# Altium footprint library Kame_PDB.PcbLib: 15 footprints
Each footprint in its own frame and in the unit in brackets; x right, y up, seen from the top. Pads: shape width x height; smd on the part's side, far side on the other; paste and mask are expansions set on the pad; w line width, h text height; cw(c..) or ccw(c..) is an arc to the next point about the centre after c.
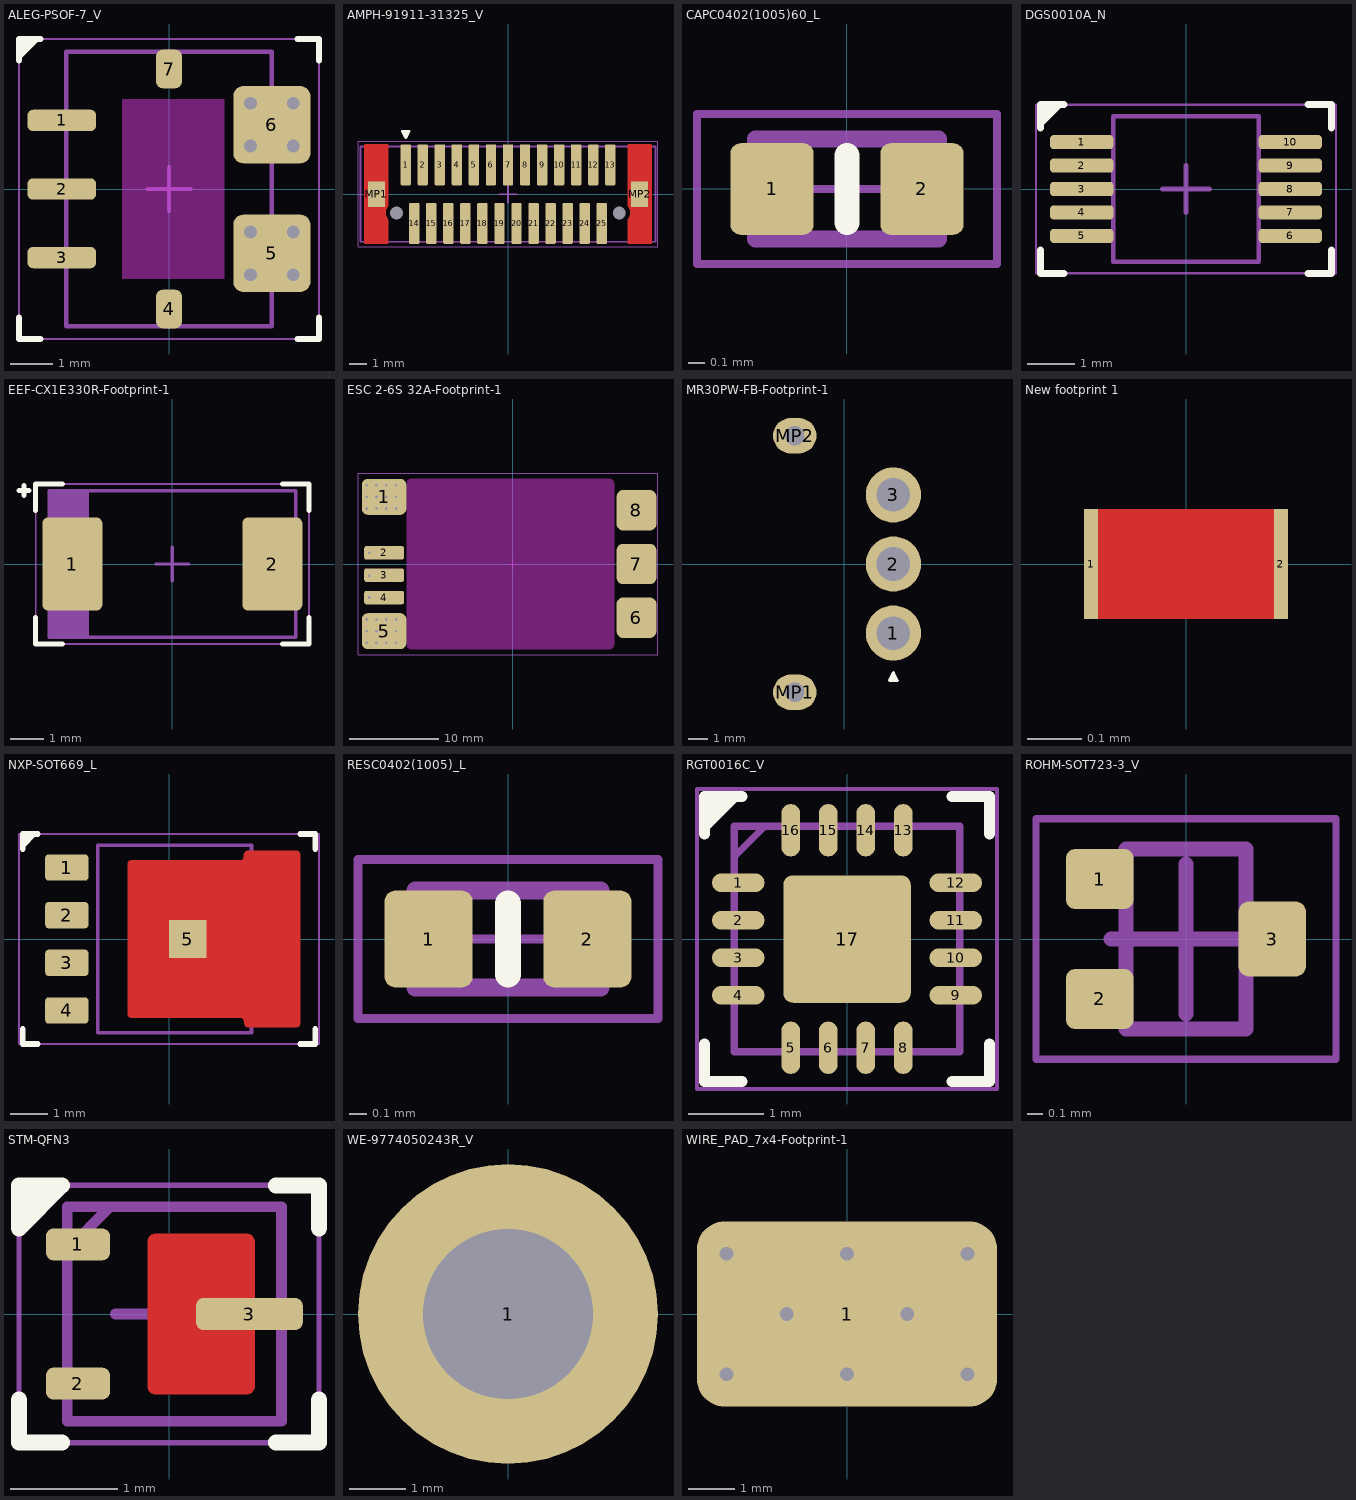
[diagram p0: the footprints below, top view; thin cyan lines are the x and y axes]

## ALEG-PSOF-7_V [mm]
pads (7):
  rrect50% 1.6x0.5 smd: 1(-2.5,1.6) 2(-2.5,0) 3(-2.5,-1.6)
  rrect50% 0.6x0.9 smd: 4(0,-2.8) 7(0,2.8)
  rrect25% 1.8x1.8 smd: 5(2.4,-1.5) 6(2.4,1.5)
via 1.9,2 diameter 0.6 hole 0.3
via 2.9,2 diameter 0.6 hole 0.3
via 1.9,1 diameter 0.6 hole 0.3
via 2.9,1 diameter 0.6 hole 0.3
via 1.9,-1 diameter 0.6 hole 0.3
via 2.9,-1 diameter 0.6 hole 0.3
via 1.9,-2 diameter 0.6 hole 0.3
via 2.9,-2 diameter 0.6 hole 0.3
Top Overlay:
  region: -3.5,3.5 -3.5,3.1 -3.1,3.5
  lines w0.15: -3.5,-3 -3.5,-3.5 -3,-3.5 ; -3.5,3 -3.5,3.5 -3,3.5 ; -3.1,3.5 -3.5,3.1 ; 3,-3.5 3.5,-3.5 3.5,-3 ; 3,3.5 3.5,3.5 3.5,3 ; -3.5,3.1 -3.5,3.1
Keep-Out Layer:
  rectangle: -1.1,-2.1 1.3,2.1
Top Courtyard:
  lines w0.05: -3.5,-3.5 3.5,-3.5 3.5,3.5 -3.5,3.5 -3.5,-3.5
  lines w0.1: -0.5,0 0.5,0 ; 0,-0.5 0,0.5
Top Assembly:
  lines w0.1: -2.4,-3.2 2.4,-3.2 2.4,3.2 -2.4,3.2 -2.4,-3.2
Top Designator:
  text ".Designator" at -1.27,-0.127 h0.6
3D body "7-Pin PSOF Package.STEP": height 1.49, standoff 0.01, extent -3.2,-3.2 3.2,3.2

## AMPH-91911-31325_V [mm]
pads (29):
  rrect25% 0.61x2.41 smd paste-0.61: 1(-6,1.72) 2(-5,1.72) 3(-4,1.72) 4(-3,1.72) 5(-2,1.72) 6(-1,1.72) 7(0,1.72) 8(1,1.72) 9(2,1.72) 10(3,1.72) 11(4,1.72) 12(5,1.72) 13(6,1.72) 14(-5.5,-1.72) 15(-4.5,-1.72) 16(-3.5,-1.72) 17(-2.5,-1.72) 18(-1.5,-1.72) 19(-0.5,-1.72) 20(0.5,-1.72) 21(1.5,-1.72) 22(2.5,-1.72) 23(3.5,-1.72) 24(4.5,-1.72) 25(5.5,-1.72)
  round 0 hole 0.76 unplated: H1(-6.528,-1.1) H2(6.528,-1.1)
  rect 1x1.5 smd paste-0.61: MP1(-7.72,0) MP2(7.72,0)
Top Layer:
  region: -8.42,-2.855 -8.42,2.855 -8.42,2.869 -8.409,2.895 -8.39,2.914 -8.364,2.925 -8.35,2.925 -7.1,2.925 -7.084,2.925 -7.055,2.913 -7.032,2.89 -7.02,2.861 -7.02,2.845 -7.02,-0.689 -7.084,-0.78 -7.159,-0.989 -7.159,-1.211 -7.083,-1.419 -7.019,-1.511 -7.02,-2.845 -7.02,-2.861 -7.032,-2.89 -7.055,-2.913 -7.084,-2.925 -7.1,-2.925 -8.35,-2.925 -8.364,-2.925 -8.39,-2.914 -8.409,-2.895 -8.42,-2.869
  region: 8.42,-2.855 8.42,2.855 8.42,2.869 8.409,2.895 8.39,2.914 8.364,2.925 8.35,2.925 7.1,2.925 7.084,2.925 7.055,2.913 7.032,2.89 7.02,2.861 7.02,2.845 7.02,-0.689 7.084,-0.78 7.159,-0.989 7.159,-1.211 7.083,-1.419 7.019,-1.511 7.02,-2.845 7.02,-2.861 7.032,-2.89 7.055,-2.913 7.084,-2.925 7.1,-2.925 8.35,-2.925 8.364,-2.925 8.39,-2.914 8.409,-2.895 8.42,-2.869
Top Overlay:
  region: -5.8,3.7 -6.2,3.7 -6,3.3
  lines w0.15: -6.2,3.7 -5.8,3.7 -6,3.3 -6.2,3.7
Top Paste:
  rectangle: -6.255,0.615 -5.745,2.925
  rectangle: -5.255,0.615 -4.745,2.925
  rectangle: -4.255,0.615 -3.745,2.925
  rectangle: -3.255,0.615 -2.745,2.925
  rectangle: -2.255,0.615 -1.745,2.925
  rectangle: -1.255,0.615 -0.745,2.925
  rectangle: -0.255,0.615 0.255,2.925
  rectangle: 0.745,0.615 1.255,2.925
  rectangle: 1.745,0.615 2.255,2.925
  rectangle: 2.745,0.615 3.255,2.925
  rectangle: 3.745,0.615 4.255,2.925
  rectangle: 4.745,0.615 5.255,2.925
  rectangle: 5.745,0.615 6.255,2.925
  region: -5.245,-0.615 -5.755,-0.615 -5.755,-2.925 -5.245,-2.925
  region: -4.245,-0.615 -4.755,-0.615 -4.755,-2.925 -4.245,-2.925
  region: -3.245,-0.615 -3.755,-0.615 -3.755,-2.925 -3.245,-2.925
  region: -2.245,-0.615 -2.755,-0.615 -2.755,-2.925 -2.245,-2.925
  region: -1.245,-0.615 -1.755,-0.615 -1.755,-2.925 -1.245,-2.925
  region: -0.245,-0.615 -0.755,-0.615 -0.755,-2.925 -0.245,-2.925
  region: 0.755,-0.615 0.245,-0.615 0.245,-2.925 0.755,-2.925
  region: 1.755,-0.615 1.245,-0.615 1.245,-2.925 1.755,-2.925
  region: 2.755,-0.615 2.245,-0.615 2.245,-2.925 2.755,-2.925
  region: 3.755,-0.615 3.245,-0.615 3.245,-2.925 3.755,-2.925
  region: 4.755,-0.615 4.245,-0.615 4.245,-2.925 4.755,-2.925
  region: 5.755,-0.615 5.245,-0.615 5.245,-2.925 5.755,-2.925
  region: -8.42,-2.925 -7.53,-2.925 -7.53,2.925 -8.42,2.925
  region: 8.42,-2.925 7.53,-2.925 7.53,2.925 8.42,2.925
Top Courtyard:
  lines w0.05: -8.8,-3.1 -8.8,3.1 8.8,3.1 8.8,-3.1 -8.8,-3.1
  lines w0.1: -0.5,0 0.5,0 ; 0,-0.5 0,0.5
Top Assembly:
  lines w0.1: -8.65,-2.795 8.65,-2.795 8.65,2.795 -8.65,2.795 -8.65,-2.795
Top Designator:
  text ".Designator" at -1.27,-0.127 h0.6
3D body: height 5, standoff 0, extent -8.65,-2.795 8.65,2.795

## CAPC0402(1005)60_L [mm]
pads (2):
  rrect25% 0.5x0.55 smd: 1(-0.45,0) 2(0.45,0)
Top Overlay:
  lines w0.15: 0,-0.2 0,0.2
Top Courtyard:
  lines w0.05: -0.275,0 0.275,0 ; 0,-0.275 0,0.275 ; -0.9,-0.45 0.9,-0.45 0.9,0.45 -0.9,0.45 -0.9,-0.45
Top Assembly:
  lines w0.1: -0.55,-0.3 -0.55,0.3 0.55,0.3 0.55,-0.3 -0.55,-0.3
Top Designator:
  text ".Designator" at -1.27,-0.127 h0.6
3D body "CAPC1005X60N EIA 0402.STEP": height 0.6, standoff 0, extent -0.5,-0.25 0.5,0.25

## DGS0010A_N [mm]
pads (10):
  rrect50% 1.35x0.3 smd: 1(-2.225,1) 2(-2.225,0.5) 3(-2.225,0) 4(-2.225,-0.5) 5(-2.225,-1) 6(2.225,-1) 7(2.225,-0.5) 8(2.225,0) 9(2.225,0.5) 10(2.225,1)
Top Overlay:
  region: -3.1,1.8 -3.1,1.4 -2.7,1.8
  lines w0.15: -3.1,-1.3 -3.1,-1.8 -2.6,-1.8 ; -3.1,1.3 -3.1,1.8 -2.6,1.8 ; -2.7,1.8 -3.1,1.4 ; 2.6,-1.8 3.1,-1.8 3.1,-1.3 ; 2.6,1.8 3.1,1.8 3.1,1.3 ; -3.1,1.4 -3.1,1.4
Top Courtyard:
  lines w0.05: -3.2,-1.8 3.2,-1.8 3.2,1.8 -3.2,1.8 -3.2,-1.8
  lines w0.1: -0.5,0 0.5,0 ; 0,-0.5 0,0.5
Top Assembly:
  lines w0.1: -1.55,-1.55 1.55,-1.55 1.55,1.55 -1.55,1.55 -1.55,-1.55
Top Designator:
  text ".Designator" at -1.397,-0.254 h0.6
3D body "DGS0010AakaMUB10A.stp": height 0.94, standoff -0.02, extent -2.451,-1.498 2.451,1.499

## EEF-CX1E330R-Footprint-1 [mm]
pads (2):
  rrect20% 1.8x2.8 smd: 1(-3,0) 2(3,0)
Top Overlay:
  lines w0.15: -4.6,2.2 -4.3,2.2 ; -4.45,2.05 -4.45,2.35 ; -4.1,-1.6 -4.1,-2.4 -3.3,-2.4 ; -4.1,1.6 -4.1,2.4 -3.3,2.4 ; 3.3,-2.4 4.1,-2.4 4.1,-1.6 ; 3.3,2.4 4.1,2.4 4.1,1.6
Top Courtyard:
  lines w0.05: -4.1,-2.4 -4.1,2.4 4.1,2.4 4.1,-2.4 -4.1,-2.4
  lines w0.1: -0.5,0 0.5,0 ; 0,-0.5 0,0.5
Top Assembly:
  rectangle: -3.7,-2.2 -2.5,2.2
  lines w0.1: -3.7,-2.2 -3.7,2.2 3.7,2.2 3.7,-2.2 -3.7,-2.2
Top Designator:
  text ".Designator" at -1.27,-0.127 h0.6
3D body "SP-CAP.STEP": height 1.85, standoff 0, extent -3.7,-2.15 3.7,2.15

## ESC 2-6S 32A-Footprint-1 [mm]
pads (8):
  rrect30% 4.95x4 smd: 1(-14.35,7.5) 5(-14.35,-7.5)
  rrect30% 4.45x1.5 smd: 2(-14.35,1.25) 3(-14.35,-1.25) 4(-14.35,-3.75)
  rrect30% 4.45x4.5 smd: 6(13.85,-6) 7(13.85,0) 8(13.85,6)
via -16,-3.75 diameter 0.6 hole 0.3
via -16,-1.3 diameter 0.6 hole 0.3
via -16,1.25 diameter 0.6 hole 0.3
via -14.1,-7.5 diameter 0.6 hole 0.3
via -15.2,-7.5 diameter 0.6 hole 0.3
via -16.3,-7.5 diameter 0.6 hole 0.3
via -13,-7.5 diameter 0.6 hole 0.3
via -14.1,-8.8 diameter 0.6 hole 0.3
via -15.2,-8.8 diameter 0.6 hole 0.3
via -16.3,-8.8 diameter 0.6 hole 0.3
via -13,-8.8 diameter 0.6 hole 0.3
via -13,-6.2 diameter 0.6 hole 0.3
via -16.3,-6.2 diameter 0.6 hole 0.3
via -15.2,-6.2 diameter 0.6 hole 0.3
via -14.1,-6.2 diameter 0.6 hole 0.3
via -14.1,8.8 diameter 0.6 hole 0.3
via -15.2,8.8 diameter 0.6 hole 0.3
via -16.3,8.8 diameter 0.6 hole 0.3
via -13,8.8 diameter 0.6 hole 0.3
via -13,6.2 diameter 0.6 hole 0.3
via -16.3,6.2 diameter 0.6 hole 0.3
via -15.2,6.2 diameter 0.6 hole 0.3
via -14.1,6.2 diameter 0.6 hole 0.3
via -13,7.5 diameter 0.6 hole 0.3
via -16.3,7.5 diameter 0.6 hole 0.3
via -15.2,7.5 diameter 0.6 hole 0.3
via -14.1,7.5 diameter 0.6 hole 0.3
Keep-Out Layer:
  board cut-out: -11.35,9.5 10.85,9.5 10.949,9.5 11.133,9.424 11.274,9.283 11.35,9.1 11.35,9 11.35,-9 11.35,-9.1 11.274,-9.283 11.133,-9.424 10.949,-9.5 10.85,-9.5 -11.35,-9.5 -11.449,-9.5 -11.633,-9.424 -11.774,-9.283 -11.85,-9.099 -11.85,-9 -11.85,9 -11.85,9.099 -11.774,9.283 -11.633,9.424 -11.449,9.5
Top Courtyard:
  lines w0.05: -0.508,0 0,0 ; 0,-0.508 0,0 ; 0,0.508 0,0 ; 0.508,0 0,0 ; -17.272,-10.16 -17.272,10.16 16.256,10.16 16.256,-10.16 -17.272,-10.16
Top Designator:
  text ".Designator" at -1.397,0 h0.6
3D body "KISS_ESC_24A_WO_WIIRE.STEP": height 3.3, standoff -1.8, extent -13.5,-9.9 13.5,9.9

## MR30PW-FB-Footprint-1 [mm]
pads (5):
  round 2.8 hole 1.7: 1(2.5,-3.5) 2(2.5,0) 3(2.5,3.5)
  oval 2.2x1.8 hole 1: MP1(-2.5,-6.5) MP2(-2.5,6.5)
Top Overlay:
  region: 2.3,-5.9 2.7,-5.9 2.5,-5.5
  lines w0.15: 2.3,-5.9 2.5,-5.5 2.7,-5.9 2.3,-5.9
Top Designator:
  text ".Designator" at -5.461,0.127 h0.6
3D body "MR30PW-FB.STEP": height 5.3, standoff -2, extent -11.55,-7.65 3.3,7.65

## New footprint 1 [mil]
pads (2):
  rect 1x8 smd: 1(-6.89,0) 2(6.89,0)
Top Layer:
  rectangle: -6.89,-4 6.89,4
Top Designator:
  text ".Designator" at -50,10 h23.62

## NXP-SOT669_L [mm]
pads (5):
  rrect25% 1.15x0.7 smd: 1(-2.725,1.905) 2(-2.725,0.635) 3(-2.725,-0.635) 4(-2.725,-1.905)
  rrect0% 1x1 smd paste-1: 5(0.5,0)
Top Layer:
  region: -1.1,2 -1.1,-2 -1.1,-2.02 -1.085,-2.057 -1.057,-2.085 -1.02,-2.1 -1,-2.1 1.9,-2.1 1.919,-2.102 1.956,-2.117 1.983,-2.144 1.998,-2.18 2,-2.2 2,-2.25 2,-2.27 2.015,-2.307 2.043,-2.335 2.08,-2.35 2.1,-2.35 3.4,-2.35 3.42,-2.35 3.457,-2.335 3.485,-2.307 3.5,-2.27 3.5,-2.25 3.5,2.25 3.5,2.27 3.485,2.307 3.457,2.335 3.42,2.35 3.4,2.35 2.1,2.35 2.08,2.35 2.043,2.335 2.015,2.307 2,2.27 2,2.25 2,2.2 1.998,2.18 1.983,2.144 1.956,2.117 1.92,2.102 1.9,2.1 -1,2.1 -1.02,2.1 -1.057,2.085 -1.085,2.057 -1.1,2.02
Top Overlay:
  region: -3.9,2.8 -3.9,2.5 -3.6,2.8
  lines w0.15: -3.9,-2.4 -3.9,-2.8 -3.5,-2.8 ; -3.9,2.4 -3.9,2.8 -3.5,2.8 ; -3.9,2.5 -3.6,2.8 ; 3.5,-2.8 3.9,-2.8 3.9,-2.4 ; 3.5,2.8 3.9,2.8 3.9,2.4
Top Courtyard:
  lines w0.05: -4,-2.8 -4,2.8 4,2.8 4,-2.8 -4,-2.8
  lines w0.1: -0.5,0 0.5,0 ; 0,-0.5 0,0.5
Top Assembly:
  lines w0.1: -1.9,-2.5 -1.9,2.5 2.2,2.5 2.2,-2.5 -1.9,-2.5
Top Designator:
  text ".Designator" at -1.016,-0.127 h0.6
3D body "SOT669-CW.STEP": height 1.1, standoff -0.1, extent -3.228,-2.45 3.2,2.45

## RESC0402(1005)_L [mm]
pads (2):
  rrect25% 0.5x0.55 smd: 1(-0.45,0) 2(0.45,0)
Top Overlay:
  lines w0.15: 0,-0.2 0,0.2
Top Courtyard:
  lines w0.05: -0.275,0 0.275,0 ; 0,-0.275 0,0.275 ; -0.85,-0.45 -0.85,0.45 0.85,0.45 0.85,-0.45 -0.85,-0.45
Top Assembly:
  lines w0.1: -0.525,-0.275 -0.525,0.275 0.525,0.275 0.525,-0.275 -0.525,-0.275
Top Designator:
  text ".Designator" at -1.27,-0.127 h0.6
3D body "RES0402.step": height 0.3, standoff 0, extent -0.5,-0.25 0.5,0.25

## RGT0016C_V [mm]
pads (17):
  rrect100% 0.7x0.25 smd: 1(-1.45,0.75) 2(-1.45,0.25) 3(-1.45,-0.25) 4(-1.45,-0.75) 9(1.45,-0.75) 10(1.45,-0.25) 11(1.45,0.25) 12(1.45,0.75)
  rrect100% 0.25x0.7 smd: 5(-0.75,-1.45) 6(-0.25,-1.45) 7(0.25,-1.45) 8(0.75,-1.45) 13(0.75,1.45) 14(0.25,1.45) 15(-0.25,1.45) 16(-0.75,1.45)
  rrect15% 1.7x1.7 smd: 17(0,0)
Top Overlay:
  region: -1.9,1.9 -1.9,1.5 -1.5,1.9
  lines w0.15: -1.9,-1.4 -1.9,-1.9 -1.4,-1.9 ; -1.9,1.4 -1.9,1.9 -1.4,1.9 ; -1.9,1.5 -1.5,1.9 ; 1.4,-1.9 1.9,-1.9 1.9,-1.4 ; 1.4,1.9 1.9,1.9 1.9,1.4
Top Courtyard:
  lines w0.05: -2,-2 2,-2 2,2 -2,2 -2,-2
  lines w0.1: -0.5,0 0.5,0 ; 0,-0.5 0,0.5
Top Assembly:
  lines w0.1: -1.5,1.1 -1.1,1.5 ; -1.5,-1.5 1.5,-1.5 1.5,1.5 -1.5,1.5 -1.5,-1.5
Top Designator:
  text ".Designator" at -1.524,-0.4 h0.6
3D body "QFN-16.STEP": height 0.97, standoff 0, extent -1.501,-1.501 1.501,1.501

## ROHM-SOT723-3_V [mm]
pads (3):
  rrect30% 0.45x0.4 smd: 1(-0.575,0.4) 2(-0.575,-0.4)
  rrect30% 0.45x0.5 smd: 3(0.575,0)
Top Courtyard:
  lines w0.05: -1,-0.8 1,-0.8 1,0.8 -1,0.8 -1,-0.8
  lines w0.1: -0.5,0 0.5,0 ; 0,-0.5 0,0.5
Top Assembly:
  lines w0.1: -0.4,-0.6 -0.4,0.6 0.4,0.6 0.4,-0.6 -0.4,-0.6
Top Designator:
  text ".Designator" at -1.27,-0.127 h0.6
3D body "SOT-723.STEP": height 0.45, standoff -0.01, extent -0.525,-0.625 0.525,0.625

## STM-QFN3 [mm]
pads (3):
  rrect50% 0.6x0.3 smd: 1(-0.85,0.65) 2(-0.85,-0.65)
  rrect50% 1x0.3 smd paste-1: 3(0.75,0)
Top Layer:
  region: -0.2,-0.675 -0.2,-0.69 -0.189,-0.717 -0.167,-0.739 -0.14,-0.75 -0.125,-0.75 0.725,-0.75 0.74,-0.75 0.767,-0.739 0.789,-0.717 0.8,-0.69 0.8,-0.675 0.8,0.675 0.8,0.69 0.789,0.717 0.767,0.739 0.74,0.75 0.725,0.75 -0.125,0.75 -0.14,0.75 -0.167,0.739 -0.189,0.717 -0.2,0.69 -0.2,0.675
Top Overlay:
  region: -1.4,1.2 -1.4,0.8 -1,1.2
  lines w0.15: -1.4,-0.8 -1.4,-1.2 -1,-1.2 ; 1,-1.2 1.4,-1.2 1.4,-0.8 ; 1,1.2 1.4,1.2 1.4,0.8 ; -1.4,0.8 -1,1.2 -1.4,1.2 -1.4,0.8
Top Paste:
  region: -0.05,0.5 -0.05,-0.5 0.7,-0.5 0.7,-0.15 1.15,-0.15 1.16,-0.15 1.178,-0.142 1.192,-0.128 1.2,-0.11 1.2,-0.1 1.2,0.1 1.2,0.11 1.192,0.128 1.178,0.142 1.16,0.15 1.15,0.15 0.7,0.15 0.7,0.5
Top Courtyard:
  lines w0.05: -1.4,-1.2 1.4,-1.2 1.4,1.2 -1.4,1.2 -1.4,-1.2
  lines w0.1: -0.5,0 0.5,0 ; 0,-0.5 0,0.5
Top Assembly:
  lines w0.1: -0.95,0.6 -0.55,1 ; -0.95,-1 1.05,-1 1.05,1 -0.95,1 -0.95,-1
Top Designator:
  text ".Designator" at -1.778,-0.127 h0.6
3D body: height 0.6, standoff 0, extent -0.95,-1 1.05,1

## WE-9774050243R_V [mm]
pads (1):
  round 5.3 / inner round 0 / far side round 0 hole 3: 1(0,0)
Top Courtyard:
  circle w0.05: c0,0 r2.225
  lines w0.1: -0.5,0 0.5,0 ; 0,-0.5 0,0.5
Top Assembly:
  circle w0.1: c0,0 r2.175
Top Designator:
  text ".Designator" at -1.397,-3.302 h0.6
3D body "9774050243R.stp": height 5, standoff -1.4, extent -2.175,-2.172 2.175,2.172

## WIRE_PAD_7x4-Footprint-1 [mm]
pads (1):
  rrect30% 6.472x4 smd mask+0.102: 1(0,0)
via -2.6,-1.3 diameter 0.6 hole 0.3
via -2.6,1.3 diameter 0.6 hole 0.3
via 0,1.3 diameter 0.6 hole 0.3
via 0,-1.3 diameter 0.6 hole 0.3
via 2.6,1.3 diameter 0.6 hole 0.3
via 2.6,-1.3 diameter 0.6 hole 0.3
via 1.3,0 diameter 0.6 hole 0.3
via -1.3,0 diameter 0.6 hole 0.3
Top Designator:
  text ".Designator" at -2.159,2.413 h0.6